# Altium footprint library PA2748NL.PcbLib: 1 footprints
Each footprint in its own frame and in the unit in brackets; x right, y up, seen from the top. Pads: shape width x height; smd on the part's side, far side on the other; paste and mask are expansions set on the pad; w line width, h text height; cw(c..) or ccw(c..) is an arc to the next point about the centre after c.
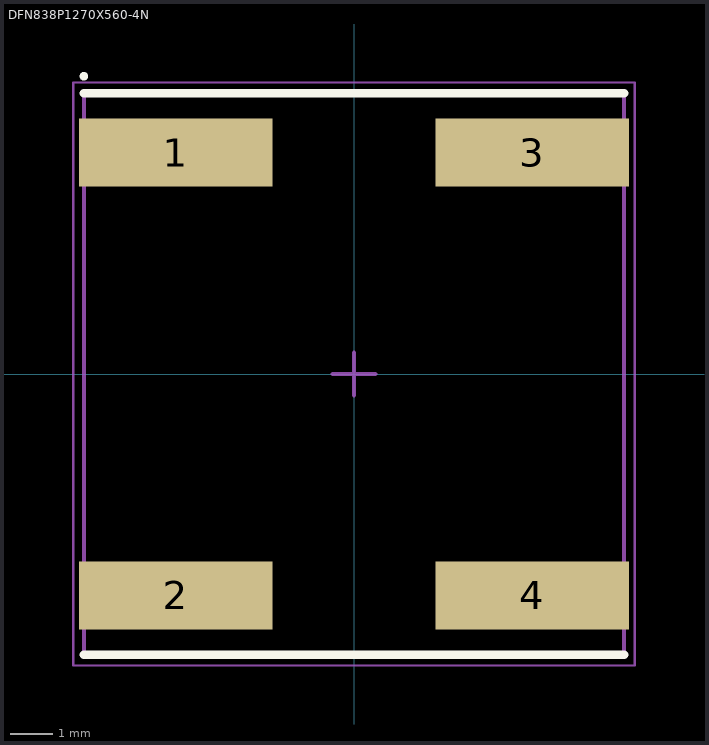
[diagram p0: the footprint, top view; thin cyan lines are the x and y axes]

## DFN838P1270X560-4N [mm] "DFN, 4-Leads, Body 13.20x12.70mm, Pitch 8.38mm, IPC Medium Density"
height 5.6
pads (4):
  rect 4.55x1.6 smd: 1(-4.19,5.205) 2(-4.19,-5.205) 3(4.19,5.205) 4(4.19,-5.205)
Top Overlay:
  circle w0.1: c-6.35,7 r0.05
  lines w0.2: -6.35,-6.6 6.35,-6.6 ; -6.35,6.6 6.35,6.6
Mechanical 13:
  lines w0.1: -6.35,-6.6 6.35,-6.6 6.35,6.6 -6.35,6.6 -6.35,-6.6
Mechanical 15:
  lines w0.05: -6.6,-6.85 6.6,-6.85 6.6,6.85 -6.6,6.85 -6.6,-6.85
  lines w0.1: -0.5,0 0.5,0 ; 0,-0.5 0,0.5
3D body "DFN838P1270X560-4N.step": height 5.6, standoff 0, extent -6.35,-6.6 8.54,6.6